# Altium footprint library Sensorboard_Library.PcbLib: 13 footprints
Each footprint in its own frame and in the unit in brackets; x right, y up, seen from the top. Pads: shape width x height; smd on the part's side, far side on the other; paste and mask are expansions set on the pad; w line width, h text height; cw(c..) or ccw(c..) is an arc to the next point about the centre after c.
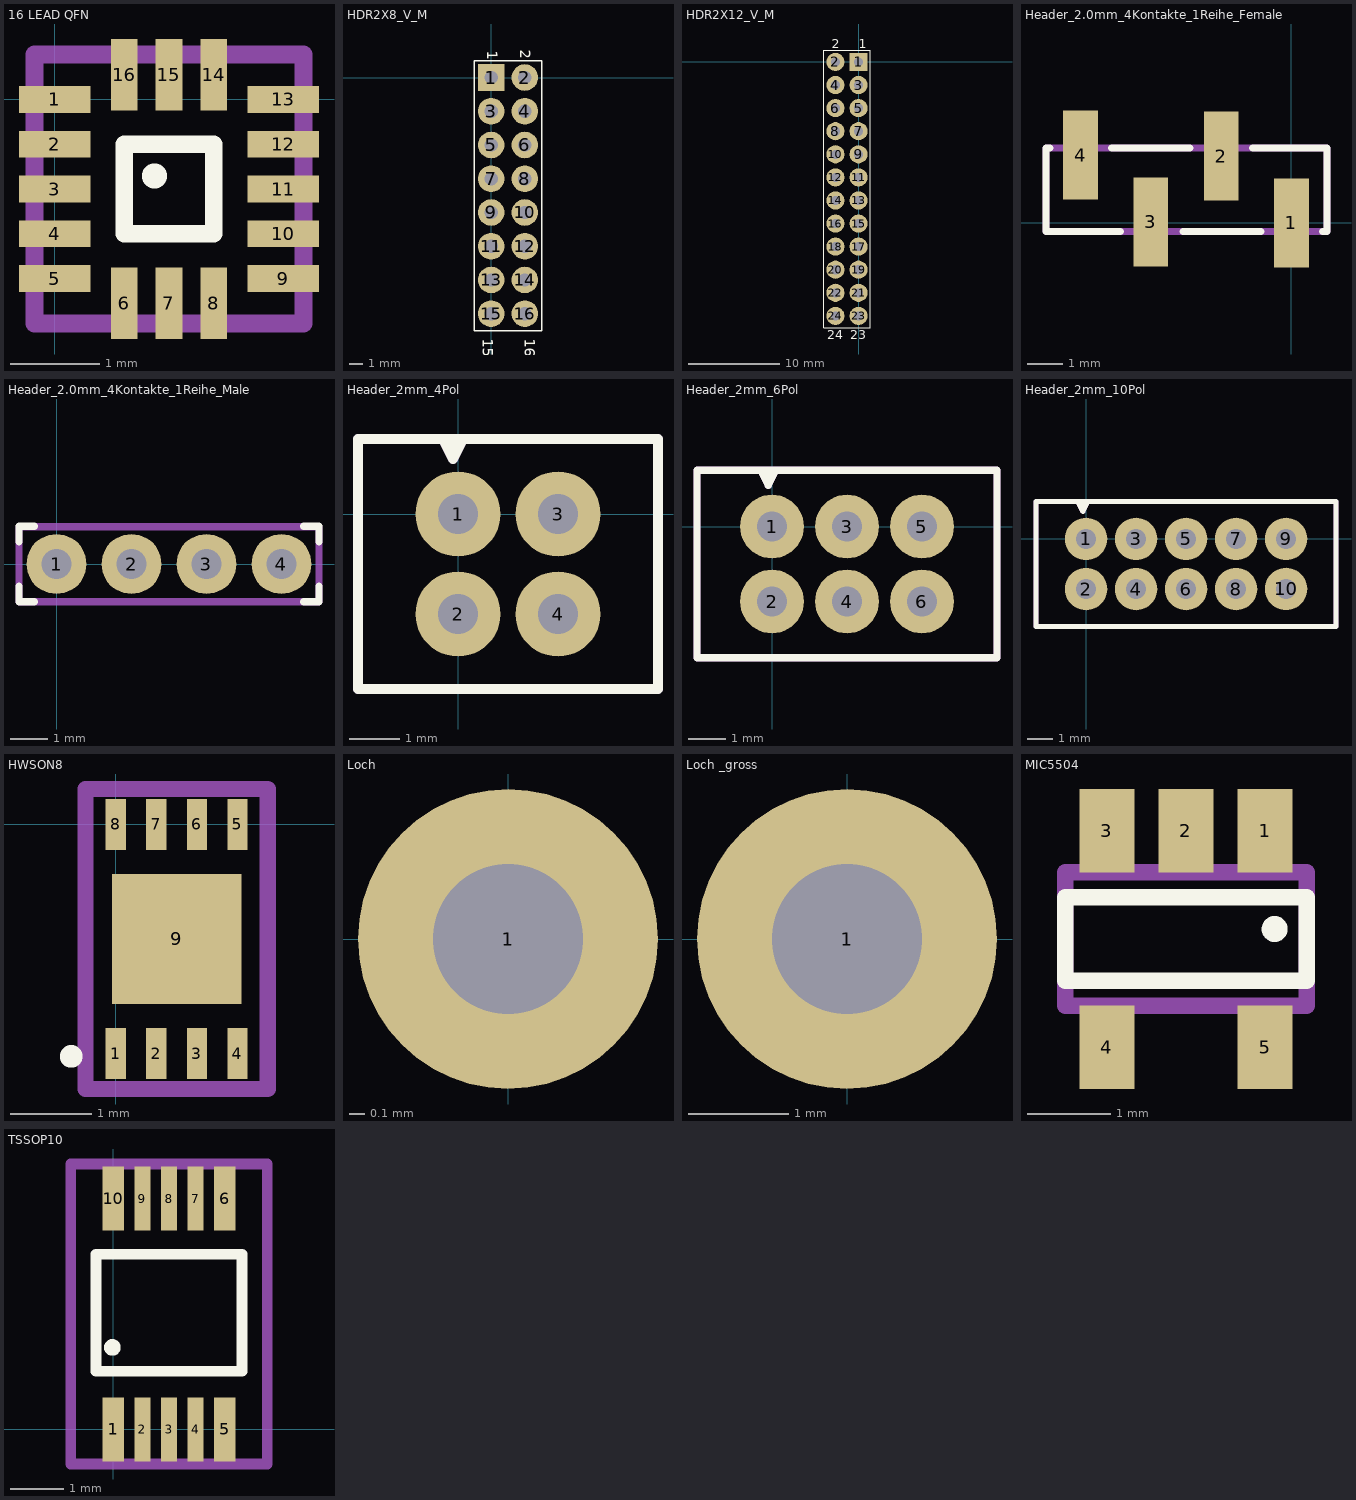
[diagram p0: the footprints below, top view; thin cyan lines are the x and y axes]

## 16 LEAD QFN [mm]
height 1
pads (16):
  rect 0.8x0.3 smd paste-0.015 mask+0.113: 1(0,0) 2(0,-0.5) 3(0,-1) 4(0,-1.5) 5(0,-2) 9(2.55,-2) 10(2.55,-1.5) 11(2.55,-1) 12(2.55,-0.5) 13(2.55,0)
  rect 0.3x0.8 smd paste-0.015 mask+0.113: 6(0.775,-2.275) 7(1.275,-2.275) 8(1.775,-2.275) 14(1.775,0.275) 15(1.275,0.275) 16(0.775,0.275)
Top Overlay:
  lines w0.2: 0.775,-1.5 1.775,-1.5 1.775,-0.5 0.775,-0.5 0.775,-1.5
  lines w0.254: 1.125,-0.856 cw(c1.112,-0.854) 1.125,-0.85
Mechanical 13:
  lines w0.2: -0.225,-2.5 -0.225,0.5 2.775,0.5 2.775,-2.5 -0.225,-2.5

## HDR2X8_V_M [mm] "Connector; Header; 8x2 Position male"
height 8.3
pads (16):
  rect 2x2 hole 1: 1(0,0)
  round 2 hole 1: 2(2.54,0) 3(0,-2.54) 4(2.54,-2.54) 5(0,-5.08) 6(2.54,-5.08) 7(0,-7.62) 8(2.54,-7.62) 9(0,-10.16) 10(2.54,-10.16) 11(0,-12.7) 12(2.54,-12.7) 13(0,-15.24) 14(2.54,-15.24) 15(0,-17.78) 16(2.54,-17.78)
Top Overlay:
  lines w0.1: -1.27,-19.05 3.81,-19.05 3.81,1.27 -1.27,1.27 -1.27,-19.05
  text "16" at 2.54,-19.685 h0.8
  text "15" at -0.635,-19.685 h0.8
  text "1" at -0.3,2 h0.8
  text "2" at 2.2,2.1 h0.8
3D body: height 2.2, standoff 0, extent -1.28,-19.07 3.82,-14
3D body: height 8.3, standoff 2.2, extent 2.24,-13 2.84,-12.4
3D body: height 1.5, standoff 0, extent 2.24,-13 2.84,-12.4
3D body: height 1.5, standoff 0, extent -0.3,-13 0.3,-12.4
3D body: height 8.3, standoff 2.2, extent -0.3,-13 0.3,-12.4
3D body: height 8.3, standoff 2.2, extent -0.3,-0.3 0.3,0.3
3D body: height 2.2, standoff 0, extent -1.28,-14 3.82,1.27
3D body: height 1.5, standoff 0, extent -0.3,-0.3 0.3,0.3
3D body: height 1.5, standoff 0, extent -0.3,-2.84 0.3,-2.24
3D body: height 8.3, standoff 2.2, extent -0.3,-2.84 0.3,-2.24
3D body: height 8.3, standoff 2.2, extent -0.3,-5.38 0.3,-4.78
3D body: height 1.5, standoff 0, extent -0.3,-5.38 0.3,-4.78
3D body: height 8.3, standoff 2.2, extent -0.3,-7.92 0.3,-7.32
3D body: height 1.5, standoff 0, extent -0.3,-7.92 0.3,-7.32
3D body: height 8.3, standoff 2.2, extent -0.3,-10.46 0.3,-9.86
3D body: height 1.5, standoff 0, extent -0.3,-10.46 0.3,-9.86
3D body: height 1.5, standoff 0, extent 2.24,-10.46 2.84,-9.86
3D body: height 8.3, standoff 2.2, extent 2.24,-10.46 2.84,-9.86
3D body: height 1.5, standoff 0, extent 2.24,-7.92 2.84,-7.32
3D body: height 8.3, standoff 2.2, extent 2.24,-7.92 2.84,-7.32
3D body: height 1.5, standoff 0, extent 2.24,-5.38 2.84,-4.78
3D body: height 8.3, standoff 2.2, extent 2.24,-5.38 2.84,-4.78
3D body: height 1.5, standoff 0, extent 2.24,-2.84 2.84,-2.24
3D body: height 8.3, standoff 2.2, extent 2.24,-2.84 2.84,-2.24
3D body: height 1.5, standoff 0, extent 2.24,-0.3 2.84,0.3
3D body: height 8.3, standoff 2.2, extent 2.24,-0.3 2.84,0.3
3D body: height 1.5, standoff 0, extent -0.3,-15.54 0.3,-14.94
3D body: height 8.3, standoff 2.2, extent -0.3,-15.54 0.3,-14.94
3D body: height 1.5, standoff 0, extent -0.3,-18.08 0.3,-17.48
3D body: height 8.3, standoff 2.2, extent -0.3,-18.08 0.3,-17.48
3D body: height 1.5, standoff 0, extent 2.24,-18.08 2.84,-17.48
3D body: height 8.3, standoff 2.2, extent 2.24,-18.08 2.84,-17.48
3D body: height 1.5, standoff 0, extent 2.24,-15.54 2.84,-14.94
3D body: height 8.3, standoff 2.2, extent 2.24,-15.54 2.84,-14.94

## HDR2X12_V_M [mm] "Connector; Header; 6x2 Position male"
height 8.3
pads (24):
  rect 2x2 hole 1: 1(0,0)
  round 2 hole 1: 2(-2.54,0) 3(0,-2.54) 4(-2.54,-2.54) 5(0,-5.08) 6(-2.54,-5.08) 7(0,-7.62) 8(-2.54,-7.62) 9(0,-10.16) 10(-2.54,-10.16) 11(0,-12.7) 12(-2.54,-12.7) 13(0,-15.24) 14(-2.54,-15.24) 15(0,-17.78) 16(-2.54,-17.78) 17(0,-20.32) 18(-2.54,-20.32) 19(0,-22.86) 20(-2.54,-22.86) 21(0,-25.4) 22(-2.54,-25.4) 23(0,-27.94) 24(-2.54,-27.94)
Top Overlay:
  lines w0.1: -3.81,-29.25 1.27,-29.25 1.27,1.27 -3.81,1.27 -3.81,-29.25
  text "2" at -2.921,1.524 h1
  text "1" at 0,1.524 h1
  text "23" at -0.889,-30.48 h1
  text "24" at -3.429,-30.48 h1
3D body: height 8.3, standoff 2.2, extent -0.3,-15.54 0.3,-14.94
3D body: height 1.5, standoff 0, extent -0.3,-15.54 0.3,-14.94
3D body: height 8.3, standoff 2.2, extent -0.3,-18.08 0.3,-17.48
3D body: height 1.5, standoff 0, extent -0.3,-18.08 0.3,-17.48
3D body: height 8.3, standoff 2.2, extent -0.3,-20.62 0.3,-20.02
3D body: height 1.5, standoff 0, extent -0.3,-20.62 0.3,-20.02
3D body: height 8.3, standoff 2.2, extent -0.3,-23.16 0.3,-22.56
3D body: height 1.5, standoff 0, extent -0.3,-23.16 0.3,-22.56
3D body: height 8.3, standoff 2.2, extent -0.3,-25.7 0.3,-25.1
3D body: height 1.5, standoff 0, extent -0.3,-25.7 0.3,-25.1
3D body: height 8.3, standoff 2.2, extent -0.3,-28.24 0.3,-27.64
3D body: height 1.5, standoff 0, extent -0.3,-28.24 0.3,-27.64
3D body: height 8.3, standoff 2.2, extent -2.84,-28.24 -2.24,-27.64
3D body: height 1.5, standoff 0, extent -2.84,-28.24 -2.24,-27.64
3D body: height 8.3, standoff 2.2, extent -2.84,-25.7 -2.24,-25.1
3D body: height 1.5, standoff 0, extent -2.84,-25.7 -2.24,-25.1
3D body: height 8.3, standoff 2.2, extent -2.84,-23.16 -2.24,-22.56
3D body: height 1.5, standoff 0, extent -2.84,-23.16 -2.24,-22.56
3D body: height 8.3, standoff 2.2, extent -2.84,-20.62 -2.24,-20.02
3D body: height 1.5, standoff 0, extent -2.84,-20.62 -2.24,-20.02
3D body: height 8.3, standoff 2.2, extent -2.84,-18.08 -2.24,-17.48
3D body: height 1.5, standoff 0, extent -2.84,-18.08 -2.24,-17.48
3D body: height 8.3, standoff 2.2, extent -2.84,-15.54 -2.24,-14.94
3D body: height 1.5, standoff 0, extent -2.84,-15.54 -2.24,-14.94
3D body: height 2.2, standoff 0, extent -3.82,-29.24 1.28,-13.97
3D body: height 8.3, standoff 2.2, extent -0.3,-0.3 0.3,0.3
3D body: height 1.5, standoff 0, extent -0.3,-0.3 0.3,0.3
3D body: height 8.3, standoff 2.2, extent -0.3,-2.84 0.3,-2.24
3D body: height 1.5, standoff 0, extent -0.3,-2.84 0.3,-2.24
3D body: height 8.3, standoff 2.2, extent -0.3,-5.38 0.3,-4.78
3D body: height 1.5, standoff 0, extent -0.3,-5.38 0.3,-4.78
3D body: height 8.3, standoff 2.2, extent -0.3,-7.92 0.3,-7.32
3D body: height 1.5, standoff 0, extent -0.3,-7.92 0.3,-7.32
3D body: height 8.3, standoff 2.2, extent -0.3,-10.46 0.3,-9.86
3D body: height 1.5, standoff 0, extent -0.3,-10.46 0.3,-9.86
3D body: height 1.5, standoff 0, extent -2.84,-10.46 -2.24,-9.86
3D body: height 8.3, standoff 2.2, extent -2.84,-10.46 -2.24,-9.86
3D body: height 1.5, standoff 0, extent -2.84,-7.92 -2.24,-7.32
3D body: height 8.3, standoff 2.2, extent -2.84,-7.92 -2.24,-7.32
3D body: height 1.5, standoff 0, extent -2.84,-5.38 -2.24,-4.78
3D body: height 8.3, standoff 2.2, extent -2.84,-5.38 -2.24,-4.78
3D body: height 8.3, standoff 2.2, extent -2.84,-2.84 -2.24,-2.24
3D body: height 1.5, standoff 0, extent -2.84,-2.84 -2.24,-2.24
3D body: height 1.5, standoff 0, extent -2.84,-0.3 -2.24,0.3
3D body: height 2.2, standoff 0, extent -3.82,-14 1.28,1.27
3D body: height 8.3, standoff 2.2, extent -2.84,-0.3 -2.24,0.3
3D body: height 8.3, standoff 2.2, extent -2.84,-13 -2.24,-12.4
3D body: height 1.5, standoff 0, extent -2.84,-13 -2.24,-12.4
3D body: height 1.5, standoff 0, extent -0.3,-13 0.3,-12.4
3D body: height 8.3, standoff 2.2, extent -0.3,-13 0.3,-12.4

## Header_2.0mm_4Kontakte_1Reihe_Female [mil]
height 173.23
pads (4):
  rect 39x100 smd: 1(0,0) 2(-79,74.98) 3(-158,0.98) 4(-237,75.98)
Top Overlay:
  lines w7.87: -271,84 -276,84 -276,-10 -192,-10 ; -202,84 -114,84 ; -122,-10 -34,-10 ; -44,84 40,84 40,-10 35,-10
Mechanical 13:
  lines w7.87: -276,-10 40,-10 40,84 -276,84 -276,-10

## Header_2.0mm_4Kontakte_1Reihe_Male [mm]
height 5.7
pads (4):
  round 1.6 hole 0.8: 1(0,0) 2(2,0) 3(4,0) 4(6,0)
Top Overlay:
  lines w0.2: -1,-0.6 -1,-1 -0.6,-1 ; -1,0.6 -1,1 -0.6,1 ; 6.6,-1 7,-1 7,-0.6 ; 6.6,1 7,1 7,0.6
Mechanical 13:
  lines w0.2: -1,-1 7,-1 7,1 -1,1 -1,-1

## Header_2mm_4Pol [mm]
height 7
pads (4):
  round 1.7 hole 0.8: 1(0,0) 2(0,-2) 3(2,0) 4(2,-2)
Top Overlay:
  lines w0.2: -0.3,1.5 -0.1,1.1 0.1,1.5 -0.2,1.3 ; -2,-3.5 -2,1.5 4,1.5 4,-3.5 -2,-3.5
Mechanical 13:
  lines w0.2: -0.3,1.5 -0.1,1.1 0.1,1.5 -0.2,1.3 ; -2,-3.5 4,-3.5 4,1.5 -2,1.5 -2,-3.5

## Header_2mm_6Pol [mm]
height 7
pads (6):
  round 1.7 hole 0.8: 1(0,0) 2(0,-2) 3(2,0) 4(2,-2) 5(4,0) 6(4,-2)
Top Overlay:
  lines w0.2: -0.3,1.5 -0.1,1.1 0.1,1.5 -0.2,1.3 ; -2,-3.5 6,-3.5 6,1.5 -2,1.5 -2,-3.5
Mechanical 13:
  lines w0.2: -0.3,1.5 -0.1,1.1 0.1,1.5 -0.2,1.3 ; -2,-3.5 -2,1.5 6,1.5 6,-3.5 -2,-3.5

## Header_2mm_10Pol [mm]
height 7
pads (10):
  round 1.7 hole 0.8: 1(0,0) 2(0,-2) 3(2,0) 4(2,-2) 5(4,0) 6(4,-2) 7(6,0) 8(6,-2) 9(8,0) 10(8,-2)
Top Overlay:
  lines w0.2: -0.325,1.5 -0.125,1.1 0.075,1.5 -0.225,1.3 ; -2,-3.5 -2,1.5 10,1.5 10,-3.5 -2,-3.5
Mechanical 13:
  lines w0.2: -0.325,1.5 -0.125,1.1 0.075,1.5 -0.225,1.3 ; -2,-3.5 10,-3.5 10,1.5 -2,1.5 -2,-3.5

## HWSON8 [mm]
height 0.8
pads (9):
  rect 0.25x0.625 smd: 1(0,-2.825) 2(0.5,-2.825) 3(1,-2.825) 4(1.5,-2.825) 5(1.5,0) 6(1,0) 7(0.5,0) 8(0,0)
  rect 1.6x1.6 smd paste-0.5: 9(0.75,-1.412)
Top Overlay:
  lines w0.254: -0.537,-2.863 cw(c-0.55,-2.86) -0.538,-2.856
Mechanical 13:
  lines w0.2: -0.375,-3.263 -0.375,0.437 1.875,0.437 1.875,-3.263 -0.375,-3.263

## Loch [mm] "Loch um Kabel einzulöten"
pads (1):
  round 2 hole 1 mask+0.113: 1(0,0)

## Loch _gross [mm] "Loch um Kabel einzulöten"
pads (1):
  round 3 hole 1.5 mask+0.113: 1(0,0)

## MIC5504 [mm]
height 1.45
pads (5):
  rect 0.66x1 smd: 1(-1222.7,-1245.4) 2(-1223.65,-1245.4) 3(-1224.6,-1245.4) 4(-1224.6,-1248) 5(-1222.7,-1248)
Top Overlay:
  lines w0.2: -1222.593,-1246.525 ccw(c-1222.585,-1246.58) -1222.575,-1246.525 ; -1225.1,-1247.2 -1222.2,-1247.2 -1222.2,-1246.2 -1225.1,-1246.2 -1225.1,-1247.2
Mechanical 13:
  lines w0.2: -1225.1,-1247.5 -1225.1,-1245.9 -1222.2,-1245.9 -1222.2,-1247.5 -1225.1,-1247.5

## TSSOP10 [mm]
height 1.1
pads (10):
  rect 0.4x1.2 smd: 1(0,0) 5(2.1,0) 6(2.1,4.35) 10(0,4.35)
  rect 0.3x1.2 smd: 2(0.55,0) 3(1.05,0) 4(1.55,0) 7(1.55,4.35) 8(1.05,4.35) 9(0.55,4.35)
Top Overlay:
  lines w0.2: -0.025,1.6 ccw(c-0.017,1.545) -0.007,1.6 ; -0.325,1.1 -0.325,3.3 2.425,3.3 2.425,1.1 -0.325,1.1
Mechanical 13:
  lines w0.2: -0.8,-0.65 2.9,-0.65 2.9,5 -0.8,5 -0.8,-0.65